# Altium schematic symbol library tmc2208_la.SchLib: 1 symbol
Pins are listed as number, name and electrical type; pins without a type are passive.

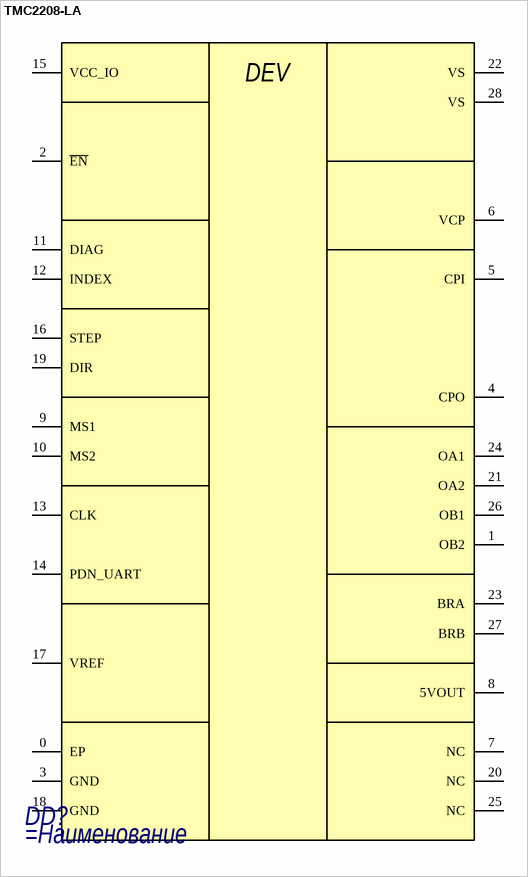
[diagram p0: symbol TMC2208-LA]

## TMC2208-LA
designator DD?
=Описание
pins: 0 EP, 1 OB2, 2 ~{EN}, 3 GND, 4 CPO, 5 CPI, 6 VCP, 7 NC, 8 5VOUT, 9 MS1, 10 MS2, 11 DIAG, 12 INDEX, 13 CLK, 14 PDN_UART, 15 VCC_IO, 16 STEP, 17 VREF, 18 GND, 19 DIR, 20 NC, 21 OA2, 22 VS, 23 BRA, 24 OA1, 25 NC, 26 OB1, 27 BRB, 28 VS
text: DEV